# Altium integrated library NSC Amplifier.IntLib: 1615 symbols (part 28 of 44)
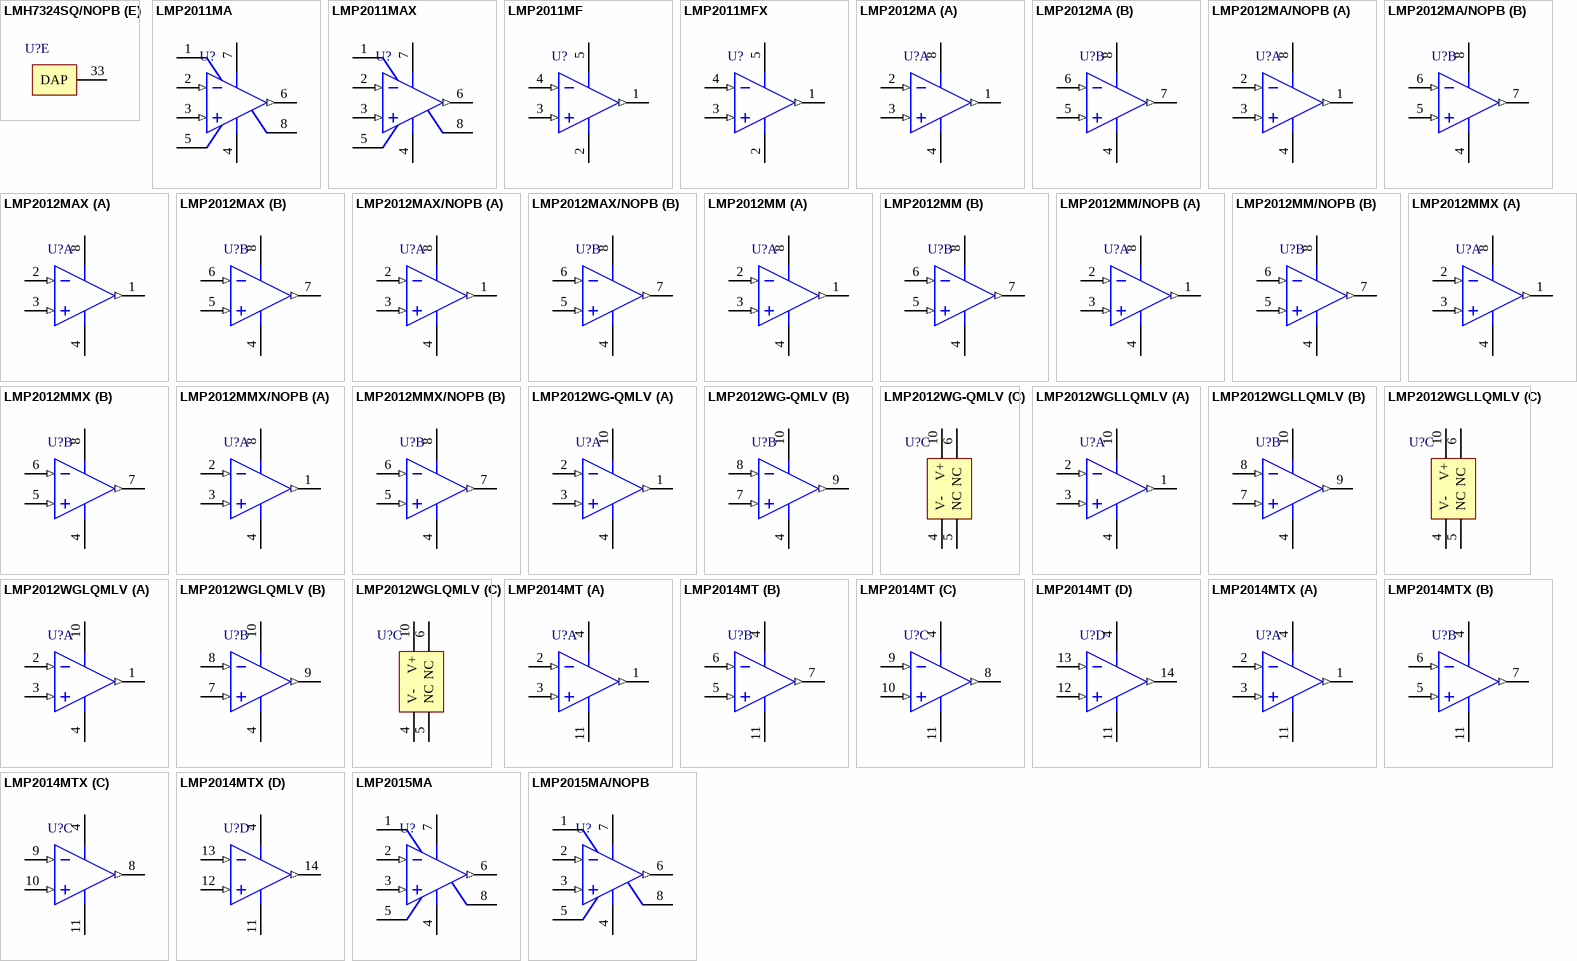
[diagram p109: symbols LMH7324SQ/NOPB to LMP2015MA/NOPB]

## LMP2012MAX
designator U?
Dual, High Precision, Rail-to-Rail Output Operational Amplifier, 8-pin Narrow SOIC; PartNumber: LMP2012MAX; Manufacturer: National Semiconductor; PackageTopMarking: NSZXTT*LMP20*12MA; PowerWise: N; CompType: Amplifiers; Published: 1-Mar-2010; DatasheetVersion: Jul-2008; PackageVersion: revM, May-2009; PackageReference: M08A; Publisher: Altium Limited; PackageDescription: SOIC Narrow, 4.9 x 3.9 x 1.45mm, 8 Lead, 1.27mm Pitch; RoHS: N; PinCount: 8; Code_JEDEC: MS-012-AA; Code_IPC: SOIC127P600-8; ComponentLink1Description: LMP2012 Datasheet; ComponentLink1URL: http://www.national.com/ds/LM/LMP2012.pdf; ComponentLink2Description: LMP2012 Web Page; ComponentLink2URL: http://www.national.com/pf/LM/LMP2012.html; ComponentLink3Description: M08A Package Page; ComponentLink3URL: http://www.national.com/packaging/folders/m08a.html
footprint M08A_N (SOIC, 8-Leads, Body 4.9x3.9mm, Pitch 1.27mm, IPC Medium Density)
footprint M08A_L (SOIC, 8-Leads, Body 4.9x3.9mm, Pitch 1.27mm, IPC High Density)
footprint M08A_M (SOIC, 8-Leads, Body 4.9x3.9mm, Pitch 1.27mm, IPC Low Density)
simulation model LMP2011 (SUBCKT)
pins on every part: 4 V- (power), 8 V+ (power)
part A pins: 1 OUT1 (out), 2 IN1- (in), 3 IN1+ (in)
part B pins: 5 IN2+ (in), 6 IN2- (in), 7 OUT2 (out)

## LMP2012MAX/NOPB
designator U?
Dual, High Precision, Rail-to-Rail Output Operational Amplifier, 8-pin Narrow SOIC, Pb-Free; PartNumber: LMP2012MAX/NOPB; Manufacturer: National Semiconductor; PackageTopMarking: NSZXTT*LMP20*12MA; PowerWise: N; CompType: Amplifiers; Published: 1-Mar-2010; DatasheetVersion: Jul-2008; PackageVersion: revM, May-2009; PackageReference: M08A; Publisher: Altium Limited; PackageDescription: SOIC Narrow, 4.9 x 3.9 x 1.45mm, 8 Lead, 1.27mm Pitch; Supplier 1: Digi-Key; Supplier Part Number 1: LMP2012MAX-ND; RoHS: Y; PinCount: 8; Code_JEDEC: MS-012-AA; Code_IPC: SOIC127P600-8; ComponentLink1Description: LMP2012 Datasheet; ComponentLink1URL: http://www.national.com/ds/LM/LMP2012.pdf; ComponentLink2Description: LMP2012 Web Page; ComponentLink2URL: http://www.national.com/pf/LM/LMP2012.html; ComponentLink3Description: M08A Package Page; ComponentLink3URL: http://www.national.com/packaging/folders/m08a.html
footprint M08A_N (SOIC, 8-Leads, Body 4.9x3.9mm, Pitch 1.27mm, IPC Medium Density)
footprint M08A_L (SOIC, 8-Leads, Body 4.9x3.9mm, Pitch 1.27mm, IPC High Density)
footprint M08A_M (SOIC, 8-Leads, Body 4.9x3.9mm, Pitch 1.27mm, IPC Low Density)
simulation model LMP2011 (SUBCKT)
pins on every part: 4 V- (power), 8 V+ (power)
part A pins: 1 OUT1 (out), 2 IN1- (in), 3 IN1+ (in)
part B pins: 5 IN2+ (in), 6 IN2- (in), 7 OUT2 (out)

## LMP2012MM
designator U?
Dual, High Precision, Rail-to-Rail Output Operational Amplifier, 8-pin Mini SOIC; PartNumber: LMP2012MM; Manufacturer: National Semiconductor; PackageTopMarking: ZXTT*AP1A; PowerWise: N; CompType: Amplifiers; Published: 4-Dec-2008; LatestRevisionDate: 13-Jan-2009; LatestRevisionNote: Sim Model Added.; DatasheetVersion: Jul-2008; PackageVersion: revF, Apr-2008; PackageReference: MUA08A; Publisher: Altium Limited; PackageDescription: MINI SOIC, .118 x .118 x .034in, 8 Lead, .0256in Pitch; Supplier 1: Farnell; Supplier Part Number 1: 1008038; RoHS: N; PinCount: 8; Code_JEDEC: MO-187-AA; ComponentLink1Description: LMP2012 Datasheet; ComponentLink1URL: http://www.national.com/ds/LM/LMP2012.pdf; ComponentLink2Description: LMP2012 Web Page; ComponentLink2URL: http://www.national.com/pf/LM/LMP2012.html; ComponentLink3Description: MUA08A Package Page; ComponentLink3URL: http://www.national.com/packaging/folders/mua08a.html
footprint MUA08A_N (TSOP, 8-Leads, Body 3x3mm, Pitch 0.65mm, IPC Medium Density)
footprint MUA08A_L (TSOP, 8-Leads, Body 3x3mm, Pitch 0.65mm, IPC High Density)
footprint MUA08A_M (TSOP, 8-Leads, Body 3x3mm, Pitch 0.65mm, IPC Low Density)
simulation model LMP2011 (SUBCKT)
pins on every part: 4 V- (power), 8 V+ (power)
part A pins: 1 OUTA (out), 2 INA- (in), 3 INA+ (in)
part B pins: 5 INB+ (in), 6 INB- (in), 7 OUTB (out)

## LMP2012MM/NOPB
designator U?
Dual, High Precision, Rail-to-Rail Output Operational Amplifier, 8-pin Mini SOIC, Pb-Free; PartNumber: LMP2012MM/NOPB; Manufacturer: National Semiconductor; PackageTopMarking: ZXTT*AP1A; PowerWise: N; CompType: Amplifiers; Published: 1-Mar-2010; DatasheetVersion: Jul-2008; PackageVersion: revF, Apr-2008; PackageReference: MUA08A; Publisher: Altium Limited; PackageDescription: MINI SOIC, .118 x .118 x .034in, 8 Lead, .0256in Pitch; Supplier 1: Digi-Key; Supplier Part Number 1: LMP2012MMTR-ND; Supplier 2: Digi-Key; Supplier Part Number 2: LMP2012MMCT-ND; Supplier 3: Digi-Key; Supplier Part Number 3: LMP2012MMDKR-ND; Supplier 4: Farnell; Supplier Part Number 4: 1559338; RoHS: Y; PinCount: 8; Code_JEDEC: MO-187-AA; ComponentLink1Description: LMP2012 Datasheet; ComponentLink1URL: http://www.national.com/ds/LM/LMP2012.pdf; ComponentLink2Description: LMP2012 Web Page; ComponentLink2URL: http://www.national.com/pf/LM/LMP2012.html; ComponentLink3Description: MUA08A Package Page; ComponentLink3URL: http://www.national.com/packaging/folders/mua08a.html
footprint MUA08A_N (TSOP, 8-Leads, Body 3x3mm, Pitch 0.65mm, IPC Medium Density)
footprint MUA08A_L (TSOP, 8-Leads, Body 3x3mm, Pitch 0.65mm, IPC High Density)
footprint MUA08A_M (TSOP, 8-Leads, Body 3x3mm, Pitch 0.65mm, IPC Low Density)
simulation model LMP2011 (SUBCKT)
pins on every part: 4 V- (power), 8 V+ (power)
part A pins: 1 OUTA (out), 2 INA- (in), 3 INA+ (in)
part B pins: 5 INB+ (in), 6 INB- (in), 7 OUTB (out)

## LMP2012MMX
designator U?
Dual, High Precision, Rail-to-Rail Output Operational Amplifier, 8-pin Mini SOIC; PartNumber: LMP2012MMX; Manufacturer: National Semiconductor; PackageTopMarking: ZXTT*AP1A; PowerWise: N; CompType: Amplifiers; Published: 1-Mar-2010; DatasheetVersion: Jul-2008; PackageVersion: revF, Apr-2008; PackageReference: MUA08A; Publisher: Altium Limited; PackageDescription: MINI SOIC, .118 x .118 x .034in, 8 Lead, .0256in Pitch; RoHS: N; PinCount: 8; Code_JEDEC: MO-187-AA; ComponentLink1Description: LMP2012 Datasheet; ComponentLink1URL: http://www.national.com/ds/LM/LMP2012.pdf; ComponentLink2Description: LMP2012 Web Page; ComponentLink2URL: http://www.national.com/pf/LM/LMP2012.html; ComponentLink3Description: MUA08A Package Page; ComponentLink3URL: http://www.national.com/packaging/folders/mua08a.html
footprint MUA08A_N (TSOP, 8-Leads, Body 3x3mm, Pitch 0.65mm, IPC Medium Density)
footprint MUA08A_L (TSOP, 8-Leads, Body 3x3mm, Pitch 0.65mm, IPC High Density)
footprint MUA08A_M (TSOP, 8-Leads, Body 3x3mm, Pitch 0.65mm, IPC Low Density)
simulation model LMP2011 (SUBCKT)
pins on every part: 4 V- (power), 8 V+ (power)
part A pins: 1 OUTA (out), 2 INA- (in), 3 INA+ (in)
part B pins: 5 INB+ (in), 6 INB- (in), 7 OUTB (out)

## LMP2012MMX/NOPB
designator U?
Dual, High Precision, Rail-to-Rail Output Operational Amplifier, 8-pin Mini SOIC, Pb-Free; PartNumber: LMP2012MMX/NOPB; Manufacturer: National Semiconductor; PackageTopMarking: ZXTT*AP1A; PowerWise: N; CompType: Amplifiers; Published: 1-Mar-2010; DatasheetVersion: Jul-2008; PackageVersion: revF, Apr-2008; PackageReference: MUA08A; Publisher: Altium Limited; PackageDescription: MINI SOIC, .118 x .118 x .034in, 8 Lead, .0256in Pitch; Supplier 1: Digi-Key; Supplier Part Number 1: LMP2012MMX-ND; RoHS: Y; PinCount: 8; Code_JEDEC: MO-187-AA; ComponentLink1Description: LMP2012 Datasheet; ComponentLink1URL: http://www.national.com/ds/LM/LMP2012.pdf; ComponentLink2Description: LMP2012 Web Page; ComponentLink2URL: http://www.national.com/pf/LM/LMP2012.html; ComponentLink3Description: MUA08A Package Page; ComponentLink3URL: http://www.national.com/packaging/folders/mua08a.html
footprint MUA08A_N (TSOP, 8-Leads, Body 3x3mm, Pitch 0.65mm, IPC Medium Density)
footprint MUA08A_L (TSOP, 8-Leads, Body 3x3mm, Pitch 0.65mm, IPC High Density)
footprint MUA08A_M (TSOP, 8-Leads, Body 3x3mm, Pitch 0.65mm, IPC Low Density)
simulation model LMP2011 (SUBCKT)
pins on every part: 4 V- (power), 8 V+ (power)
part A pins: 1 OUTA (out), 2 INA- (in), 3 INA+ (in)
part B pins: 5 INB+ (in), 6 INB- (in), 7 OUTB (out)

## LMP2012WG-QMLV
designator U?
Dual, High Precision, Rail-to-Rail Output Operational Amplifier, 10-pin CerPACK; PartNumber: LMP2012WG-QMLV; Manufacturer: National Semiconductor; PackageTopMarking: NSZSSXXYY*A LMP2012*WG-QV Q*5962-06206*01VZA; PowerWise: N; CompType: Amplifiers; High-Reliability: Y; Published: 4-Dec-2008; LatestRevisionDate: 13-Jan-2009; LatestRevisionNote: Sim Model Added.; DatasheetVersion: Jun-2010; PackageVersion: revF, Oct-2008; PackageReference: WG10A; Publisher: Altium Limited; PackageDescription: Cerpack, .270 x .241 x .070in, 10 Lead, .050in Pitch, Gull Wing; RoHS: N; PinCount: 10; ComponentLink1Description: LMP2012QML Datasheet; ComponentLink1URL: http://www.national.com/ds/LM/LMP2012QML.pdf; ComponentLink2Description: LMP2012 Web Page; ComponentLink2URL: http://www.national.com/pf/LM/LMP2012.html; ComponentLink3Description: WG10A Package Page; ComponentLink3URL: http://www.national.com/packaging/folders/wg10a.html
footprint WG10A_N (CERPACK, 10-Leads, Body 6.9x6.3mm, Pitch 1.27mm, IPC Medium Density)
footprint WG10A_L (CERPACK, 10-Leads, Body 6.9x6.3mm, Pitch 1.27mm, IPC High Density)
footprint WG10A_M (CERPACK, 10-Leads, Body 6.9x6.3mm, Pitch 1.27mm, IPC Low Density)
simulation model LMP2011 (SUBCKT)
pins on every part: 4 V- (power), 10 V+ (power)
part A pins: 1 OUTA (out), 2 INA- (in), 3 INA+ (in)
part B pins: 7 INB+ (in), 8 INB- (in), 9 OUTB (out)
part C pins: 5 NC, 6 NC

## LMP2012WGLLQMLV
designator U?
Dual, High Precision, Rail-to-Rail Output Operational Amplifier, 10-pin CERPACK; PartNumber: LMP2012WGLLQMLV; Manufacturer: National Semiconductor; PackageTopMarking: NSZSSXXYY*A LMP2012*WGLLQV Q*5962L06206*02VZA; PowerWise: N; CompType: Amplifiers; High-Reliability: Y; Published: 16-Nov-2010; DatasheetVersion: Jun-2010; PackageVersion: revF, Oct-2008; PackageReference: WG10A; Publisher: Altium Limited; PackageDescription: Cerpack, .270 x .241 x .070in, 10 Lead, .050in Pitch, Gull Wing; RoHS: N; PinCount: 10; ComponentLink1Description: LMP2012 Datasheet; ComponentLink1URL: http://www.national.com/ds/LM/LMP2012QML.pdf; ComponentLink2Description: LMP2012 Web Page; ComponentLink2URL: http://www.national.com/pf/LM/LMP2012.html; ComponentLink3Description: WG10A Package Page; ComponentLink3URL: http://www.national.com/packaging/folders/wg10a.html
footprint WG10A_N (CERPACK, 10-Leads, Body 6.9x6.3mm, Pitch 1.27mm, IPC Medium Density)
footprint WG10A_L (CERPACK, 10-Leads, Body 6.9x6.3mm, Pitch 1.27mm, IPC High Density)
footprint WG10A_M (CERPACK, 10-Leads, Body 6.9x6.3mm, Pitch 1.27mm, IPC Low Density)
pins on every part: 4 V- (power), 10 V+ (power)
part A pins: 1 OUTA (out), 2 INA- (in), 3 INA+ (in)
part B pins: 7 INB+ (in), 8 INB- (in), 9 OUTB (out)
part C pins: 5 NC, 6 NC

## LMP2012WGLQMLV
designator U?
Dual, High Precision, Rail-to-Rail Output Operational Amplifier, 10-pin CerPACK; PartNumber: LMP2012WGLQMLV; Manufacturer: National Semiconductor; PackageTopMarking: NSZSSXXYY*A LMP2012*WGLQV Q*5962L06206*01VZA; PowerWise: N; CompType: Amplifiers; High-Reliability: Y; Published: 4-Dec-2008; LatestRevisionDate: 13-Jan-2009; LatestRevisionNote: Sim Model Added.; DatasheetVersion: Jun-2010; PackageVersion: revF, Oct-2008; PackageReference: WG10A; Publisher: Altium Limited; PackageDescription: Cerpack, .270 x .241 x .070in, 10 Lead, .050in Pitch, Gull Wing; RoHS: N; PinCount: 10; ComponentLink1Description: LMP2012 Datasheet; ComponentLink1URL: http://www.national.com/ds/LM/LMP2012QML.pdf; ComponentLink2Description: LMP2012 Web Page; ComponentLink2URL: http://www.national.com/pf/LM/LMP2012.html; ComponentLink3Description: WG10A Package Page; ComponentLink3URL: http://www.national.com/packaging/folders/wg10a.html
footprint WG10A_N (CERPACK, 10-Leads, Body 6.9x6.3mm, Pitch 1.27mm, IPC Medium Density)
footprint WG10A_L (CERPACK, 10-Leads, Body 6.9x6.3mm, Pitch 1.27mm, IPC High Density)
footprint WG10A_M (CERPACK, 10-Leads, Body 6.9x6.3mm, Pitch 1.27mm, IPC Low Density)
simulation model LMP2011 (SUBCKT)
pins on every part: 4 V- (power), 10 V+ (power)
part A pins: 1 OUTA (out), 2 INA- (in), 3 INA+ (in)
part B pins: 7 INB+ (in), 8 INB- (in), 9 OUTB (out)
part C pins: 5 NC, 6 NC

## LMP2014MT
designator U?
Quad, High Precision, Rail-to-Rail Output Operational Amplifier, 14-pin TSSOP; PartNumber: LMP2014MT; Manufacturer: National Semiconductor; PackageTopMarking: NSUZXYTT*LMP20*14MT; PowerWise: N; CompType: Amplifiers; Published: 4-Dec-2008; LatestRevisionDate: 13-Jan-2009; LatestRevisionNote: Sim Model Added.; DatasheetVersion: Jul-2005; PackageVersion: revD, Jun-2003; PackageReference: MTC14; Publisher: Altium Limited; PackageDescription: Molded TSSOP, JEDEC, 5 x 4.4 x 0.9mm Body, 14 Lead, 0.65mm Pitch; Supplier 1: Farnell; Supplier Part Number 1: 1008281; RoHS: N; PinCount: 14; Code_JEDEC: MO-153-AB-1; ComponentLink1Description: LMP2014MT Datasheet; ComponentLink1URL: http://www.national.com/ds/LM/LMP2014MT.pdf; ComponentLink2Description: LMP2014MT Web Page; ComponentLink2URL: http://www.national.com/pf/LM/LMP2014MT.html; ComponentLink3Description: MTC14 Package Page; ComponentLink3URL: http://www.national.com/packaging/folders/mtc14.html
footprint MTC14_N (TSOP, 14-Leads, Body 5x4.4mm, Pitch 0.65mm, IPC Medium Density)
footprint MTC14_L (TSOP, 14-Leads, Body 5x4.4mm, Pitch 0.65mm, IPC High Density)
footprint MTC14_M (TSOP, 14-Leads, Body 5x4.4mm, Pitch 0.65mm, IPC Low Density)
simulation model LMP2011 (SUBCKT)
pins on every part: 4 V+ (power), 11 V- (power)
part A pins: 1 OUTA (out), 2 INA- (in), 3 INA+ (in)
part B pins: 5 INB+ (in), 6 INB- (in), 7 OUTB (out)
part C pins: 8 OUTC (out), 9 INC- (in), 10 INC+ (in)
part D pins: 12 IND+ (in), 13 IND- (in), 14 OUTD (out)

## LMP2014MTX
designator U?
Quad, High Precision, Rail-to-Rail Output Operational Amplifier, 14-pin TSSOP; PartNumber: LMP2014MTX; Manufacturer: National Semiconductor; PackageTopMarking: NSUZXYTT*LMP20*14MT; PowerWise: N; CompType: Amplifiers; Published: 1-Mar-2010; DatasheetVersion: Jul-2005; PackageVersion: revD, Jun-2003; PackageReference: MTC14; Publisher: Altium Limited; PackageDescription: Molded TSSOP, JEDEC, 5 x 4.4 x 0.9mm Body, 14 Lead, 0.65mm Pitch; RoHS: N; PinCount: 14; Code_JEDEC: MO-153-AB-1; ComponentLink1Description: LMP2014MT Datasheet; ComponentLink1URL: http://www.national.com/ds/LM/LMP2014MT.pdf; ComponentLink2Description: LMP2014MT Web Page; ComponentLink2URL: http://www.national.com/pf/LM/LMP2014MT.html; ComponentLink3Description: MTC14 Package Page; ComponentLink3URL: http://www.national.com/packaging/folders/mtc14.html
footprint MTC14_N (TSOP, 14-Leads, Body 5x4.4mm, Pitch 0.65mm, IPC Medium Density)
footprint MTC14_L (TSOP, 14-Leads, Body 5x4.4mm, Pitch 0.65mm, IPC High Density)
footprint MTC14_M (TSOP, 14-Leads, Body 5x4.4mm, Pitch 0.65mm, IPC Low Density)
simulation model LMP2011 (SUBCKT)
pins on every part: 4 V+ (power), 11 V- (power)
part A pins: 1 OUTA (out), 2 INA- (in), 3 INA+ (in)
part B pins: 5 INB+ (in), 6 INB- (in), 7 OUTB (out)
part C pins: 8 OUTC (out), 9 INC- (in), 10 INC+ (in)
part D pins: 12 IND+ (in), 13 IND- (in), 14 OUTD (out)

## LMP2015MA
designator U?
Single, High Precision, Rail-to-Rail Output Operational Amplifier, 8-pin Narrow SOIC; PartNumber: LMP2015MA; Manufacturer: National Semiconductor; PackageTopMarking: NSZXTT*LMP20*15MA; PowerWise: N; CompType: Amplifiers; Published: 4-Dec-2008; LatestRevisionDate: 13-Jan-2009; LatestRevisionNote: Sim Model Added.; DatasheetVersion: Jan-2010; PackageVersion: revM, May-2009; PackageReference: M08A; Publisher: Altium Limited; PackageDescription: SOIC Narrow, 4.9 x 3.9 x 1.45mm, 8 Lead, 1.27mm Pitch; Supplier 1: Farnell; Supplier Part Number 1: 1542530; RoHS: Y; PinCount: 8; Code_JEDEC: MS-012-AA; Code_IPC: SOIC127P600-8; ComponentLink1Description: LMP2015 Datasheet; ComponentLink1URL: http://www.national.com/ds/LM/LMP2015.pdf; ComponentLink2Description: LMP2015 Web Page; ComponentLink2URL: http://www.national.com/pf/LM/LMP2015.html; ComponentLink3Description: M08A Package Page; ComponentLink3URL: http://www.national.com/packaging/folders/m08a.html
footprint M08A_N (SOIC, 8-Leads, Body 4.9x3.9mm, Pitch 1.27mm, IPC Medium Density)
footprint M08A_L (SOIC, 8-Leads, Body 4.9x3.9mm, Pitch 1.27mm, IPC High Density)
footprint M08A_M (SOIC, 8-Leads, Body 4.9x3.9mm, Pitch 1.27mm, IPC Low Density)
simulation model LMP2011 (SUBCKT)
pins: 1 NC, 2 IN- (in), 3 IN+ (in), 4 V- (power), 5 NC, 6 OUT (out), 7 V+ (power), 8 NC

## LMP2015MA/NOPB
designator U?
Single, High Precision, Rail-to-Rail Output Operational Amplifier, 8-pin Narrow SOIC, Pb-Free; PartNumber: LMP2015MA/NOPB; Manufacturer: National Semiconductor; PackageTopMarking: NSZXTT*LMP20*15MA; PowerWise: N; CompType: Amplifiers; Published: 1-Mar-2010; DatasheetVersion: Jan-2010; PackageVersion: revM, May-2009; PackageReference: M08A; Publisher: Altium Limited; PackageDescription: SOIC Narrow, 4.9 x 3.9 x 1.45mm, 8 Lead, 1.27mm Pitch; Supplier 1: Digi-Key; Supplier Part Number 1: LMP2015MA-ND; RoHS: Y; PinCount: 8; Code_JEDEC: MS-012-AA; Code_IPC: SOIC127P600-8; ComponentLink1Description: LMP2015 Datasheet; ComponentLink1URL: http://www.national.com/ds/LM/LMP2015.pdf; ComponentLink2Description: LMP2015 Web Page; ComponentLink2URL: http://www.national.com/pf/LM/LMP2015.html; ComponentLink3Description: M08A Package Page; ComponentLink3URL: http://www.national.com/packaging/folders/m08a.html
footprint M08A_N (SOIC, 8-Leads, Body 4.9x3.9mm, Pitch 1.27mm, IPC Medium Density)
footprint M08A_L (SOIC, 8-Leads, Body 4.9x3.9mm, Pitch 1.27mm, IPC High Density)
footprint M08A_M (SOIC, 8-Leads, Body 4.9x3.9mm, Pitch 1.27mm, IPC Low Density)
simulation model LMP2011 (SUBCKT)
pins: 1 NC, 2 IN- (in), 3 IN+ (in), 4 V- (power), 5 NC, 6 OUT (out), 7 V+ (power), 8 NC

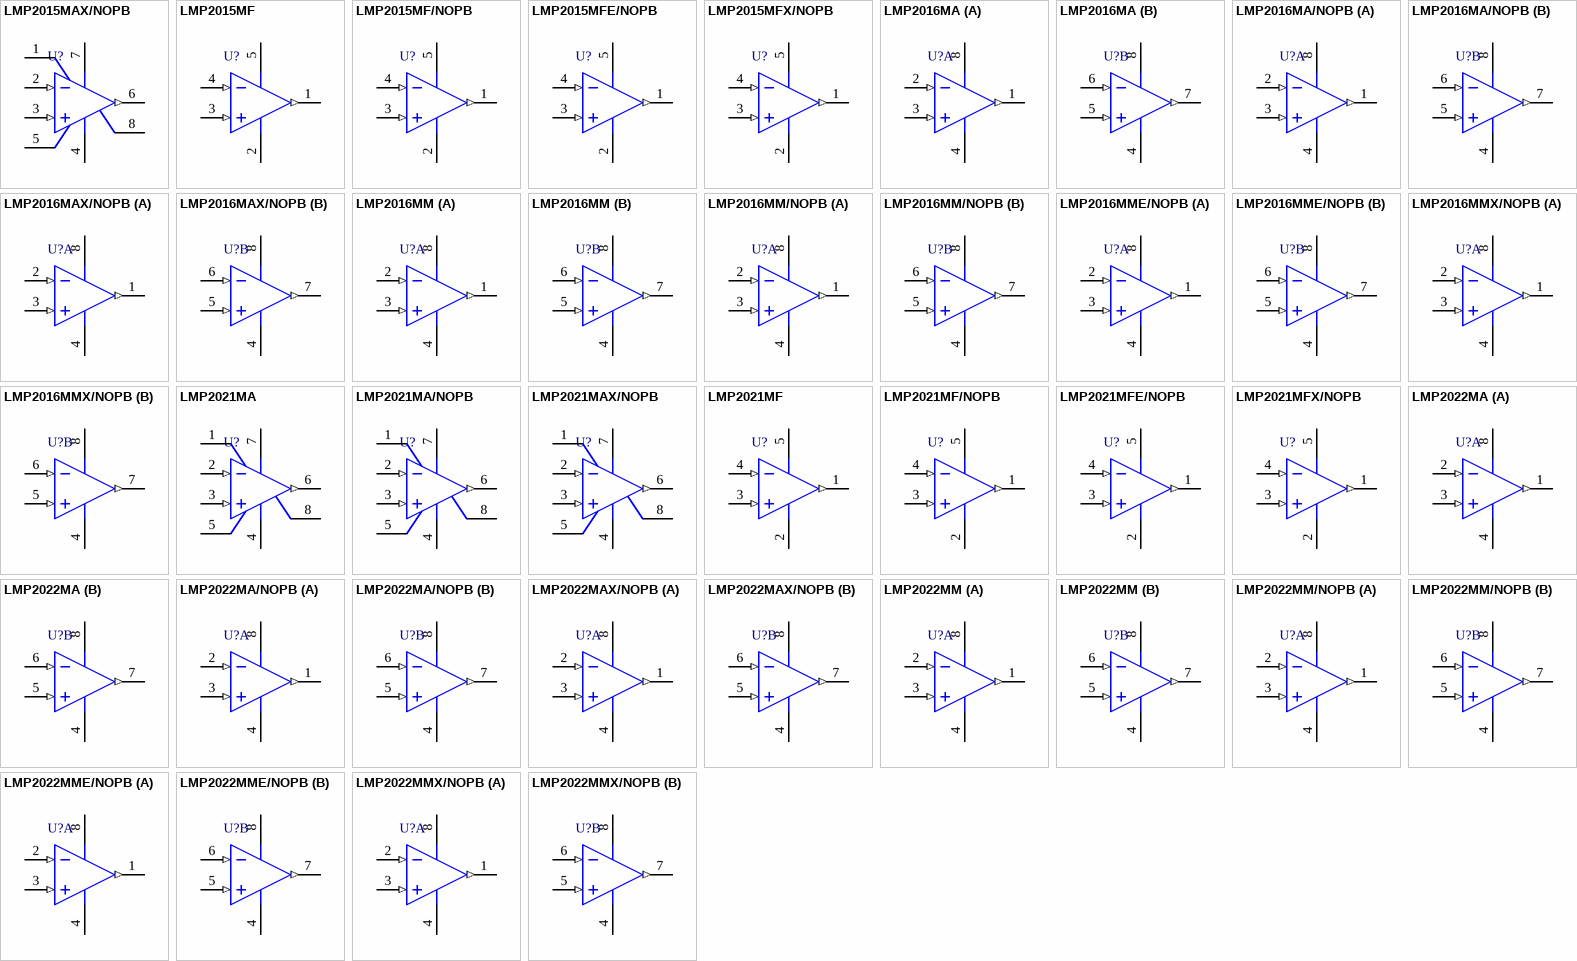
[diagram p55: symbols LMP2015MAX/NOPB to LMP2022MMX/NOPB]

## LMP2015MAX/NOPB
designator U?
Single, High Precision, Rail-to-Rail Output Operational Amplifier, 8-pin Narrow SOIC, Pb-Free; PartNumber: LMP2015MAX/NOPB; Manufacturer: National Semiconductor; PackageTopMarking: NSZXTT*LMP20*15MA; PowerWise: N; CompType: Amplifiers; Published: 1-Mar-2010; DatasheetVersion: Jan-2010; PackageVersion: revM, May-2009; PackageReference: M08A; Publisher: Altium Limited; PackageDescription: SOIC Narrow, 4.9 x 3.9 x 1.45mm, 8 Lead, 1.27mm Pitch; Supplier 1: Digi-Key; Supplier Part Number 1: LMP2015MAX-ND; RoHS: Y; PinCount: 8; Code_JEDEC: MS-012-AA; Code_IPC: SOIC127P600-8; ComponentLink1Description: LMP2015 Datasheet; ComponentLink1URL: http://www.national.com/ds/LM/LMP2015.pdf; ComponentLink2Description: LMP2015 Web Page; ComponentLink2URL: http://www.national.com/pf/LM/LMP2015.html; ComponentLink3Description: M08A Package Page; ComponentLink3URL: http://www.national.com/packaging/folders/m08a.html
footprint M08A_N (SOIC, 8-Leads, Body 4.9x3.9mm, Pitch 1.27mm, IPC Medium Density)
footprint M08A_L (SOIC, 8-Leads, Body 4.9x3.9mm, Pitch 1.27mm, IPC High Density)
footprint M08A_M (SOIC, 8-Leads, Body 4.9x3.9mm, Pitch 1.27mm, IPC Low Density)
simulation model LMP2011 (SUBCKT)
pins: 1 NC, 2 IN- (in), 3 IN+ (in), 4 V- (power), 5 NC, 6 OUT (out), 7 V+ (power), 8 NC

## LMP2015MF
designator U?
Single, High Precision, Rail-to-Rail Output Operational Amplifier, 5-pin SOT-23; PartNumber: LMP2015MF; Manufacturer: National Semiconductor; PackageTopMarking: AD5A*XTT; PowerWise: N; CompType: Amplifiers; Published: 4-Dec-2008; LatestRevisionDate: 13-Jan-2009; LatestRevisionNote: Sim Model Added.; DatasheetVersion: Jan-2010; PackageVersion: revD, Aug-2008; PackageReference: MF05A; Publisher: Altium Limited; PackageDescription: Molded SOT-23, .115 x .063 x .040 in Body, 5 Lead, .0375 in Pitch; Supplier 1: Farnell; Supplier Part Number 1: 1542531; RoHS: Y; PinCount: 5; ComponentLink1Description: LMP2015 Datasheet; ComponentLink1URL: http://www.national.com/ds/LM/LMP2015.pdf; ComponentLink2Description: LMP2015 Web Page; ComponentLink2URL: http://www.national.com/pf/LM/LMP2015.html; ComponentLink3Description: MF05A Package Page; ComponentLink3URL: http://www.national.com/packaging/folders/mf05a.html
footprint MF05A_N (SOT23, 5-Leads, Body 2.9x1.6mm, Pitch 0.95mm, Lead Span 2.8mm, IPC Medium Density)
footprint MF05A_L (SOT23, 5-Leads, Body 2.9x1.6mm, Pitch 0.95mm, Lead Span 2.8mm, IPC High Density)
footprint MF05A_M (SOT23, 5-Leads, Body 2.9x1.6mm, Pitch 0.95mm, Lead Span 2.8mm, IPC Low Density)
simulation model LMP2011 (SUBCKT)
pins: 1 OUT (out), 2 V- (power), 3 IN+ (in), 4 IN- (in), 5 V+ (power)

## LMP2015MF/NOPB
designator U?
Single, High Precision, Rail-to-Rail Output Operational Amplifier, 5-pin SOT-23, Pb-Free; PartNumber: LMP2015MF/NOPB; Manufacturer: National Semiconductor; PackageTopMarking: AD5A*XTT; PowerWise: N; CompType: Amplifiers; Published: 1-Mar-2010; DatasheetVersion: Jan-2010; PackageVersion: revD, Aug-2008; PackageReference: MF05A; Publisher: Altium Limited; PackageDescription: Molded SOT-23, .115 x .063 x .040 in Body, 5 Lead, .0375 in Pitch; Supplier 1: Digi-Key; Supplier Part Number 1: LMP2015MFTR-ND; Supplier 2: Digi-Key; Supplier Part Number 2: LMP2015MFCT-ND; Supplier 3: Digi-Key; Supplier Part Number 3: LMP2015MFDKR-ND; RoHS: Y; PinCount: 5; ComponentLink1Description: LMP2015 Datasheet; ComponentLink1URL: http://www.national.com/ds/LM/LMP2015.pdf; ComponentLink2Description: LMP2015 Web Page; ComponentLink2URL: http://www.national.com/pf/LM/LMP2015.html; ComponentLink3Description: MF05A Package Page; ComponentLink3URL: http://www.national.com/packaging/folders/mf05a.html
footprint MF05A_N (SOT23, 5-Leads, Body 2.9x1.6mm, Pitch 0.95mm, Lead Span 2.8mm, IPC Medium Density)
footprint MF05A_L (SOT23, 5-Leads, Body 2.9x1.6mm, Pitch 0.95mm, Lead Span 2.8mm, IPC High Density)
footprint MF05A_M (SOT23, 5-Leads, Body 2.9x1.6mm, Pitch 0.95mm, Lead Span 2.8mm, IPC Low Density)
simulation model LMP2011 (SUBCKT)
pins: 1 OUT (out), 2 V- (power), 3 IN+ (in), 4 IN- (in), 5 V+ (power)

## LMP2015MFE/NOPB
designator U?
Single, High Precision, Rail-to-Rail Output Operational Amplifier, 5-pin SOT-23, Pb-Free; PartNumber: LMP2015MFE/NOPB; Manufacturer: National Semiconductor; PackageTopMarking: AD5A*XTT; PowerWise: N; CompType: Amplifiers; Published: 1-Mar-2010; DatasheetVersion: Jan-2010; PackageVersion: revD, Aug-2008; PackageReference: MF05A; Publisher: Altium Limited; PackageDescription: Molded SOT-23, .115 x .063 x .040 in Body, 5 Lead, .0375 in Pitch; Supplier 1: Digi-Key; Supplier Part Number 1: LMP2015MFE-ND; RoHS: Y; PinCount: 5; ComponentLink1Description: LMP2015 Datasheet; ComponentLink1URL: http://www.national.com/ds/LM/LMP2015.pdf; ComponentLink2Description: LMP2015 Web Page; ComponentLink2URL: http://www.national.com/pf/LM/LMP2015.html; ComponentLink3Description: MF05A Package Page; ComponentLink3URL: http://www.national.com/packaging/folders/mf05a.html
footprint MF05A_N (SOT23, 5-Leads, Body 2.9x1.6mm, Pitch 0.95mm, Lead Span 2.8mm, IPC Medium Density)
footprint MF05A_L (SOT23, 5-Leads, Body 2.9x1.6mm, Pitch 0.95mm, Lead Span 2.8mm, IPC High Density)
footprint MF05A_M (SOT23, 5-Leads, Body 2.9x1.6mm, Pitch 0.95mm, Lead Span 2.8mm, IPC Low Density)
simulation model LMP2011 (SUBCKT)
pins: 1 OUT (out), 2 V- (power), 3 IN+ (in), 4 IN- (in), 5 V+ (power)

## LMP2015MFX/NOPB
designator U?
Single, High Precision, Rail-to-Rail Output Operational Amplifier, 5-pin SOT-23, Pb-Free; PartNumber: LMP2015MFX/NOPB; Manufacturer: National Semiconductor; PackageTopMarking: AD5A*XTT; PowerWise: N; CompType: Amplifiers; Published: 1-Mar-2010; DatasheetVersion: Jan-2010; PackageVersion: revD, Aug-2008; PackageReference: MF05A; Publisher: Altium Limited; PackageDescription: Molded SOT-23, .115 x .063 x .040 in Body, 5 Lead, .0375 in Pitch; Supplier 1: Digi-Key; Supplier Part Number 1: LMP2015MFX-ND; RoHS: Y; PinCount: 5; ComponentLink1Description: LMP2015 Datasheet; ComponentLink1URL: http://www.national.com/ds/LM/LMP2015.pdf; ComponentLink2Description: LMP2015 Web Page; ComponentLink2URL: http://www.national.com/pf/LM/LMP2015.html; ComponentLink3Description: MF05A Package Page; ComponentLink3URL: http://www.national.com/packaging/folders/mf05a.html
footprint MF05A_N (SOT23, 5-Leads, Body 2.9x1.6mm, Pitch 0.95mm, Lead Span 2.8mm, IPC Medium Density)
footprint MF05A_L (SOT23, 5-Leads, Body 2.9x1.6mm, Pitch 0.95mm, Lead Span 2.8mm, IPC High Density)
footprint MF05A_M (SOT23, 5-Leads, Body 2.9x1.6mm, Pitch 0.95mm, Lead Span 2.8mm, IPC Low Density)
simulation model LMP2011 (SUBCKT)
pins: 1 OUT (out), 2 V- (power), 3 IN+ (in), 4 IN- (in), 5 V+ (power)

## LMP2016MA
designator U?
High Precision, Rail-to-Rail Output Operational Amplifier, 8-pin Narrow SOIC; PartNumber: LMP2016MA; Manufacturer: National Semiconductor; PackageTopMarking: NSZXTT*LMP20*16MA; PowerWise: N; CompType: Amplifiers; Published: 4-Dec-2008; LatestRevisionDate: 30-Oct-2009; LatestRevisionNote: Single Op Amp replaced with Dual Op Amp.; DatasheetVersion: Jan-2010; PackageVersion: revM, May-2009; PackageReference: M08A; Publisher: Altium Limited; PackageDescription: SOIC Narrow, 4.9 x 3.9 x 1.45mm, 8 Lead, 1.27mm Pitch; RoHS: Y; PinCount: 8; Code_JEDEC: MS-012-AA; Code_IPC: SOIC127P600-8; ComponentLink1Description: LMP2016 Datasheet; ComponentLink1URL: http://www.national.com/ds/LM/LMP2016.pdf; ComponentLink2Description: LMP2016 Web Page; ComponentLink2URL: http://www.national.com/pf/LM/LMP2016.html; ComponentLink3Description: M08A Package Page; ComponentLink3URL: http://www.national.com/packaging/folders/m08a.html
footprint M08A_N (SOIC, 8-Leads, Body 4.9x3.9mm, Pitch 1.27mm, IPC Medium Density)
footprint M08A_L (SOIC, 8-Leads, Body 4.9x3.9mm, Pitch 1.27mm, IPC High Density)
footprint M08A_M (SOIC, 8-Leads, Body 4.9x3.9mm, Pitch 1.27mm, IPC Low Density)
simulation model LMP2011 (SUBCKT)
pins on every part: 4 V- (power), 8 V+ (power)
part A pins: 1 OUT1 (out), 2 IN1- (in), 3 IN1+ (in)
part B pins: 5 IN2+ (in), 6 IN2- (in), 7 OUT2 (out)

## LMP2016MA/NOPB
designator U?
High Precision, Rail-to-Rail Output Operational Amplifier, 8-pin Narrow SOIC, Pb-Free; PartNumber: LMP2016MA/NOPB; Manufacturer: National Semiconductor; PackageTopMarking: NSZXTT*LMP20*16MA; PowerWise: N; CompType: Amplifiers; Published: 1-Mar-2010; DatasheetVersion: Jan-2010; PackageVersion: revM, May-2009; PackageReference: M08A; Publisher: Altium Limited; PackageDescription: SOIC Narrow, 4.9 x 3.9 x 1.45mm, 8 Lead, 1.27mm Pitch; Supplier 1: Digi-Key; Supplier Part Number 1: LMP2016MA-ND; RoHS: Y; PinCount: 8; Code_JEDEC: MS-012-AA; Code_IPC: SOIC127P600-8; ComponentLink1Description: LMP2016 Datasheet; ComponentLink1URL: http://www.national.com/ds/LM/LMP2016.pdf; ComponentLink2Description: LMP2016 Web Page; ComponentLink2URL: http://www.national.com/pf/LM/LMP2016.html; ComponentLink3Description: M08A Package Page; ComponentLink3URL: http://www.national.com/packaging/folders/m08a.html
footprint M08A_N (SOIC, 8-Leads, Body 4.9x3.9mm, Pitch 1.27mm, IPC Medium Density)
footprint M08A_L (SOIC, 8-Leads, Body 4.9x3.9mm, Pitch 1.27mm, IPC High Density)
footprint M08A_M (SOIC, 8-Leads, Body 4.9x3.9mm, Pitch 1.27mm, IPC Low Density)
simulation model LMP2011 (SUBCKT)
pins on every part: 4 V- (power), 8 V+ (power)
part A pins: 1 OUT1 (out), 2 IN1- (in), 3 IN1+ (in)
part B pins: 5 IN2+ (in), 6 IN2- (in), 7 OUT2 (out)

## LMP2016MAX/NOPB
designator U?
High Precision, Rail-to-Rail Output Operational Amplifier, 8-pin Narrow SOIC, Pb-Free; PartNumber: LMP2016MAX/NOPB; Manufacturer: National Semiconductor; PackageTopMarking: NSZXTT*LMP20*16MA; PowerWise: N; CompType: Amplifiers; Published: 1-Mar-2010; DatasheetVersion: Jan-2010; PackageVersion: revM, May-2009; PackageReference: M08A; Publisher: Altium Limited; PackageDescription: SOIC Narrow, 4.9 x 3.9 x 1.45mm, 8 Lead, 1.27mm Pitch; Supplier 1: Digi-Key; Supplier Part Number 1: LMP2016MAX-ND; RoHS: Y; PinCount: 8; Code_JEDEC: MS-012-AA; Code_IPC: SOIC127P600-8; ComponentLink1Description: LMP2016 Datasheet; ComponentLink1URL: http://www.national.com/ds/LM/LMP2016.pdf; ComponentLink2Description: LMP2016 Web Page; ComponentLink2URL: http://www.national.com/pf/LM/LMP2016.html; ComponentLink3Description: M08A Package Page; ComponentLink3URL: http://www.national.com/packaging/folders/m08a.html
footprint M08A_N (SOIC, 8-Leads, Body 4.9x3.9mm, Pitch 1.27mm, IPC Medium Density)
footprint M08A_L (SOIC, 8-Leads, Body 4.9x3.9mm, Pitch 1.27mm, IPC High Density)
footprint M08A_M (SOIC, 8-Leads, Body 4.9x3.9mm, Pitch 1.27mm, IPC Low Density)
simulation model LMP2011 (SUBCKT)
pins on every part: 4 V- (power), 8 V+ (power)
part A pins: 1 OUT1 (out), 2 IN1- (in), 3 IN1+ (in)
part B pins: 5 IN2+ (in), 6 IN2- (in), 7 OUT2 (out)

## LMP2016MM
designator U?
Dual, High Precision, Rail-to-Rail Output Operational Amplifier, 8-pin Mini SOIC; PartNumber: LMP2016MM; Manufacturer: National Semiconductor; PackageTopMarking: ZXTT*AE5A; PowerWise: N; CompType: Amplifiers; Published: 4-Dec-2008; LatestRevisionDate: 13-Jan-2009; LatestRevisionNote: Sim Model Added.; DatasheetVersion: Jan-2010; PackageVersion: revF, Apr-2008; PackageReference: MUA08A; Publisher: Altium Limited; PackageDescription: MINI SOIC, .118 x .118 x .034in, 8 Lead, .0256in Pitch; RoHS: Y; PinCount: 8; Code_JEDEC: MO-187-AA; ComponentLink1Description: LMP2016 Datasheet; ComponentLink1URL: http://www.national.com/ds/LM/LMP2016.pdf; ComponentLink2Description: LMP2016 Web Page; ComponentLink2URL: http://www.national.com/pf/LM/LMP2016.html; ComponentLink3Description: MUA08A Package Page; ComponentLink3URL: http://www.national.com/packaging/folders/mua08a.html
footprint MUA08A_N (TSOP, 8-Leads, Body 3x3mm, Pitch 0.65mm, IPC Medium Density)
footprint MUA08A_L (TSOP, 8-Leads, Body 3x3mm, Pitch 0.65mm, IPC High Density)
footprint MUA08A_M (TSOP, 8-Leads, Body 3x3mm, Pitch 0.65mm, IPC Low Density)
simulation model LMP2011 (SUBCKT)
pins on every part: 4 V- (power), 8 V+ (power)
part A pins: 1 OUTA (out), 2 INA- (in), 3 INA+ (in)
part B pins: 5 INB+ (in), 6 INB- (in), 7 OUTB (out)

## LMP2016MM/NOPB
designator U?
Dual, High Precision, Rail-to-Rail Output Operational Amplifier, 8-pin Mini SOIC, Pb-Free; PartNumber: LMP2016MM/NOPB; Manufacturer: National Semiconductor; PackageTopMarking: ZXTT*AE5A; PowerWise: N; CompType: Amplifiers; Published: 1-Mar-2010; DatasheetVersion: Jan-2010; PackageVersion: revF, Apr-2008; PackageReference: MUA08A; Publisher: Altium Limited; PackageDescription: MINI SOIC, .118 x .118 x .034in, 8 Lead, .0256in Pitch; Supplier 1: Digi-Key; Supplier Part Number 1: LMP2016MMTR-ND; Supplier 2: Digi-Key; Supplier Part Number 2: LMP2016MMCT-ND; Supplier 3: Digi-Key; Supplier Part Number 3: LMP2016MMDKR-ND; RoHS: Y; PinCount: 8; Code_JEDEC: MO-187-AA; ComponentLink1Description: LMP2016 Datasheet; ComponentLink1URL: http://www.national.com/ds/LM/LMP2016.pdf; ComponentLink2Description: LMP2016 Web Page; ComponentLink2URL: http://www.national.com/pf/LM/LMP2016.html; ComponentLink3Description: MUA08A Package Page; ComponentLink3URL: http://www.national.com/packaging/folders/mua08a.html
footprint MUA08A_N (TSOP, 8-Leads, Body 3x3mm, Pitch 0.65mm, IPC Medium Density)
footprint MUA08A_L (TSOP, 8-Leads, Body 3x3mm, Pitch 0.65mm, IPC High Density)
footprint MUA08A_M (TSOP, 8-Leads, Body 3x3mm, Pitch 0.65mm, IPC Low Density)
simulation model LMP2011 (SUBCKT)
pins on every part: 4 V- (power), 8 V+ (power)
part A pins: 1 OUTA (out), 2 INA- (in), 3 INA+ (in)
part B pins: 5 INB+ (in), 6 INB- (in), 7 OUTB (out)

## LMP2016MME/NOPB
designator U?
Dual, High Precision, Rail-to-Rail Output Operational Amplifier, 8-pin Mini SOIC, Pb-Free; PartNumber: LMP2016MME/NOPB; Manufacturer: National Semiconductor; PackageTopMarking: ZXTT*AE5A; PowerWise: N; CompType: Amplifiers; Published: 1-Mar-2010; DatasheetVersion: Jan-2010; PackageVersion: revF, Apr-2008; PackageReference: MUA08A; Publisher: Altium Limited; PackageDescription: MINI SOIC, .118 x .118 x .034in, 8 Lead, .0256in Pitch; Supplier 1: Digi-Key; Supplier Part Number 1: LMP2016MME-ND; RoHS: Y; PinCount: 8; Code_JEDEC: MO-187-AA; ComponentLink1Description: LMP2016 Datasheet; ComponentLink1URL: http://www.national.com/ds/LM/LMP2016.pdf; ComponentLink2Description: LMP2016 Web Page; ComponentLink2URL: http://www.national.com/pf/LM/LMP2016.html; ComponentLink3Description: MUA08A Package Page; ComponentLink3URL: http://www.national.com/packaging/folders/mua08a.html
footprint MUA08A_N (TSOP, 8-Leads, Body 3x3mm, Pitch 0.65mm, IPC Medium Density)
footprint MUA08A_L (TSOP, 8-Leads, Body 3x3mm, Pitch 0.65mm, IPC High Density)
footprint MUA08A_M (TSOP, 8-Leads, Body 3x3mm, Pitch 0.65mm, IPC Low Density)
simulation model LMP2011 (SUBCKT)
pins on every part: 4 V- (power), 8 V+ (power)
part A pins: 1 OUTA (out), 2 INA- (in), 3 INA+ (in)
part B pins: 5 INB+ (in), 6 INB- (in), 7 OUTB (out)

## LMP2016MMX/NOPB
designator U?
Dual, High Precision, Rail-to-Rail Output Operational Amplifier, 8-pin Mini SOIC, Pb-Free; PartNumber: LMP2016MMX/NOPB; Manufacturer: National Semiconductor; PackageTopMarking: ZXTT*AE5A; PowerWise: N; CompType: Amplifiers; Published: 1-Mar-2010; DatasheetVersion: Jan-2010; PackageVersion: revF, Apr-2008; PackageReference: MUA08A; Publisher: Altium Limited; PackageDescription: MINI SOIC, .118 x .118 x .034in, 8 Lead, .0256in Pitch; Supplier 1: Digi-Key; Supplier Part Number 1: LMP2016MMX-ND; RoHS: Y; PinCount: 8; Code_JEDEC: MO-187-AA; ComponentLink1Description: LMP2016 Datasheet; ComponentLink1URL: http://www.national.com/ds/LM/LMP2016.pdf; ComponentLink2Description: LMP2016 Web Page; ComponentLink2URL: http://www.national.com/pf/LM/LMP2016.html; ComponentLink3Description: MUA08A Package Page; ComponentLink3URL: http://www.national.com/packaging/folders/mua08a.html
footprint MUA08A_N (TSOP, 8-Leads, Body 3x3mm, Pitch 0.65mm, IPC Medium Density)
footprint MUA08A_L (TSOP, 8-Leads, Body 3x3mm, Pitch 0.65mm, IPC High Density)
footprint MUA08A_M (TSOP, 8-Leads, Body 3x3mm, Pitch 0.65mm, IPC Low Density)
simulation model LMP2011 (SUBCKT)
pins on every part: 4 V- (power), 8 V+ (power)
part A pins: 1 OUTA (out), 2 INA- (in), 3 INA+ (in)
part B pins: 5 INB+ (in), 6 INB- (in), 7 OUTB (out)

## LMP2021MA
designator U?
Zero Drift, Low Noise, EMI Hardened Amplifier, 8-pin Narrow SOIC; PartNumber: LMP2021MA; Manufacturer: National Semiconductor; PackageTopMarking: NSZXTT*LMP20*21MA; PowerWise: N; CompType: Amplifiers; Published: 4-Dec-2008; LatestRevisionDate: 13-Jan-2009; LatestRevisionNote: Sim Model Added.; DatasheetVersion: Jul-2009; PackageVersion: revM, May-2009; PackageReference: M08A; Publisher: Altium Limited; PackageDescription: SOIC Narrow, 4.9 x 3.9 x 1.45mm, 8 Lead, 1.27mm Pitch; RoHS: Y; PinCount: 8; Code_JEDEC: MS-012-AA; Code_IPC: SOIC127P600-8; ComponentLink1Description: LMP2021 Datasheet; ComponentLink1URL: http://www.national.com/ds/LM/LMP2021.pdf; ComponentLink2Description: LMP2021 Web Page; ComponentLink2URL: http://www.national.com/pf/LM/LMP2021.html; ComponentLink3Description: M08A Package Page; ComponentLink3URL: http://www.national.com/packaging/folders/m08a.html
footprint M08A_N (SOIC, 8-Leads, Body 4.9x3.9mm, Pitch 1.27mm, IPC Medium Density)
footprint M08A_L (SOIC, 8-Leads, Body 4.9x3.9mm, Pitch 1.27mm, IPC High Density)
footprint M08A_M (SOIC, 8-Leads, Body 4.9x3.9mm, Pitch 1.27mm, IPC Low Density)
simulation model LMP2021 (SUBCKT)
pins: 1 NC, 2 IN- (in), 3 IN+ (in), 4 V- (power), 5 NC, 6 OUT (out), 7 V+ (power), 8 NC

## LMP2021MA/NOPB
designator U?
Zero Drift, Low Noise, EMI Hardened Amplifier, 8-pin Narrow SOIC, Pb-Free; PartNumber: LMP2021MA/NOPB; Manufacturer: National Semiconductor; PackageTopMarking: NSZXTT*LMP20*21MA; PowerWise: N; CompType: Amplifiers; Published: 1-Mar-2010; DatasheetVersion: Jul-2009; PackageVersion: revM, May-2009; PackageReference: M08A; Publisher: Altium Limited; PackageDescription: SOIC Narrow, 4.9 x 3.9 x 1.45mm, 8 Lead, 1.27mm Pitch; Supplier 1: Digi-Key; Supplier Part Number 1: LMP2021MA-ND; Supplier 2: Farnell; Supplier Part Number 2: 1684977; RoHS: Y; PinCount: 8; Code_JEDEC: MS-012-AA; Code_IPC: SOIC127P600-8; ComponentLink1Description: LMP2021 Datasheet; ComponentLink1URL: http://www.national.com/ds/LM/LMP2021.pdf; ComponentLink2Description: LMP2021 Web Page; ComponentLink2URL: http://www.national.com/pf/LM/LMP2021.html; ComponentLink3Description: M08A Package Page; ComponentLink3URL: http://www.national.com/packaging/folders/m08a.html
footprint M08A_N (SOIC, 8-Leads, Body 4.9x3.9mm, Pitch 1.27mm, IPC Medium Density)
footprint M08A_L (SOIC, 8-Leads, Body 4.9x3.9mm, Pitch 1.27mm, IPC High Density)
footprint M08A_M (SOIC, 8-Leads, Body 4.9x3.9mm, Pitch 1.27mm, IPC Low Density)
simulation model LMP2021 (SUBCKT)
pins: 1 NC, 2 IN- (in), 3 IN+ (in), 4 V- (power), 5 NC, 6 OUT (out), 7 V+ (power), 8 NC

## LMP2021MAX/NOPB
designator U?
Zero Drift, Low Noise, EMI Hardened Amplifier, 8-pin Narrow SOIC, Pb-Free; PartNumber: LMP2021MAX/NOPB; Manufacturer: National Semiconductor; PackageTopMarking: NSZXTT*LMP20*21MA; PowerWise: N; CompType: Amplifiers; Published: 1-Mar-2010; DatasheetVersion: Jul-2009; PackageVersion: revM, May-2009; PackageReference: M08A; Publisher: Altium Limited; PackageDescription: SOIC Narrow, 4.9 x 3.9 x 1.45mm, 8 Lead, 1.27mm Pitch; Supplier 1: Digi-Key; Supplier Part Number 1: LMP2021MAX-ND; RoHS: Y; PinCount: 8; Code_JEDEC: MS-012-AA; Code_IPC: SOIC127P600-8; ComponentLink1Description: LMP2021 Datasheet; ComponentLink1URL: http://www.national.com/ds/LM/LMP2021.pdf; ComponentLink2Description: LMP2021 Web Page; ComponentLink2URL: http://www.national.com/pf/LM/LMP2021.html; ComponentLink3Description: M08A Package Page; ComponentLink3URL: http://www.national.com/packaging/folders/m08a.html
footprint M08A_N (SOIC, 8-Leads, Body 4.9x3.9mm, Pitch 1.27mm, IPC Medium Density)
footprint M08A_L (SOIC, 8-Leads, Body 4.9x3.9mm, Pitch 1.27mm, IPC High Density)
footprint M08A_M (SOIC, 8-Leads, Body 4.9x3.9mm, Pitch 1.27mm, IPC Low Density)
simulation model LMP2021 (SUBCKT)
pins: 1 NC, 2 IN- (in), 3 IN+ (in), 4 V- (power), 5 NC, 6 OUT (out), 7 V+ (power), 8 NC

## LMP2021MF
designator U?
Zero Drift, Low Noise, EMI Hardened Amplifier, 5-pin SOT-23; PartNumber: LMP2021MF; Manufacturer: National Semiconductor; PackageTopMarking: AF5A*XTT; PowerWise: N; CompType: Amplifiers; Published: 4-Dec-2008; LatestRevisionDate: 13-Jan-2009; LatestRevisionNote: Sim Model Added.; DatasheetVersion: Jul-2009; PackageVersion: revD, Aug-2008; PackageReference: MF05A; Publisher: Altium Limited; PackageDescription: Molded SOT-23, .115 x .063 x .040 in Body, 5 Lead, .0375 in Pitch; RoHS: Y; PinCount: 5; ComponentLink1Description: LMP2021 Datasheet; ComponentLink1URL: http://www.national.com/ds/LM/LMP2021.pdf; ComponentLink2Description: LMP2021 Web Page; ComponentLink2URL: http://www.national.com/pf/LM/LMP2021.html; ComponentLink3Description: MF05A Package Page; ComponentLink3URL: http://www.national.com/packaging/folders/mf05a.html
footprint MF05A_N (SOT23, 5-Leads, Body 2.9x1.6mm, Pitch 0.95mm, Lead Span 2.8mm, IPC Medium Density)
footprint MF05A_L (SOT23, 5-Leads, Body 2.9x1.6mm, Pitch 0.95mm, Lead Span 2.8mm, IPC High Density)
footprint MF05A_M (SOT23, 5-Leads, Body 2.9x1.6mm, Pitch 0.95mm, Lead Span 2.8mm, IPC Low Density)
simulation model LMP2021 (SUBCKT)
pins: 1 OUT (out), 2 V- (power), 3 IN+ (in), 4 IN- (in), 5 V+ (power)

## LMP2021MF/NOPB
designator U?
Zero Drift, Low Noise, EMI Hardened Amplifier, 5-pin SOT-23, Pb-Free; PartNumber: LMP2021MF/NOPB; Manufacturer: National Semiconductor; PackageTopMarking: AF5A*XTT; PowerWise: N; CompType: Amplifiers; Published: 1-Mar-2010; DatasheetVersion: Jul-2009; PackageVersion: revD, Aug-2008; PackageReference: MF05A; Publisher: Altium Limited; PackageDescription: Molded SOT-23, .115 x .063 x .040 in Body, 5 Lead, .0375 in Pitch; Supplier 1: Digi-Key; Supplier Part Number 1: LMP2021MF-ND; RoHS: Y; PinCount: 5; ComponentLink1Description: LMP2021 Datasheet; ComponentLink1URL: http://www.national.com/ds/LM/LMP2021.pdf; ComponentLink2Description: LMP2021 Web Page; ComponentLink2URL: http://www.national.com/pf/LM/LMP2021.html; ComponentLink3Description: MF05A Package Page; ComponentLink3URL: http://www.national.com/packaging/folders/mf05a.html
footprint MF05A_N (SOT23, 5-Leads, Body 2.9x1.6mm, Pitch 0.95mm, Lead Span 2.8mm, IPC Medium Density)
footprint MF05A_L (SOT23, 5-Leads, Body 2.9x1.6mm, Pitch 0.95mm, Lead Span 2.8mm, IPC High Density)
footprint MF05A_M (SOT23, 5-Leads, Body 2.9x1.6mm, Pitch 0.95mm, Lead Span 2.8mm, IPC Low Density)
simulation model LMP2021 (SUBCKT)
pins: 1 OUT (out), 2 V- (power), 3 IN+ (in), 4 IN- (in), 5 V+ (power)

## LMP2021MFE/NOPB
designator U?
Zero Drift, Low Noise, EMI Hardened Amplifier, 5-pin SOT-23, Pb-Free; PartNumber: LMP2021MFE/NOPB; Manufacturer: National Semiconductor; PackageTopMarking: AF5A*XTT; PowerWise: N; CompType: Amplifiers; Published: 1-Mar-2010; DatasheetVersion: Jul-2009; PackageVersion: revD, Aug-2008; PackageReference: MF05A; Publisher: Altium Limited; PackageDescription: Molded SOT-23, .115 x .063 x .040 in Body, 5 Lead, .0375 in Pitch; Supplier 1: Digi-Key; Supplier Part Number 1: LMP2021MFETR-ND; Supplier 2: Digi-Key; Supplier Part Number 2: LMP2021MFECT-ND; Supplier 3: Digi-Key; Supplier Part Number 3: LMP2021MFEDKR-ND; Supplier 4: Farnell; Supplier Part Number 4: 1684979; RoHS: Y; PinCount: 5; ComponentLink1Description: LMP2021 Datasheet; ComponentLink1URL: http://www.national.com/ds/LM/LMP2021.pdf; ComponentLink2Description: LMP2021 Web Page; ComponentLink2URL: http://www.national.com/pf/LM/LMP2021.html; ComponentLink3Description: MF05A Package Page; ComponentLink3URL: http://www.national.com/packaging/folders/mf05a.html
footprint MF05A_N (SOT23, 5-Leads, Body 2.9x1.6mm, Pitch 0.95mm, Lead Span 2.8mm, IPC Medium Density)
footprint MF05A_L (SOT23, 5-Leads, Body 2.9x1.6mm, Pitch 0.95mm, Lead Span 2.8mm, IPC High Density)
footprint MF05A_M (SOT23, 5-Leads, Body 2.9x1.6mm, Pitch 0.95mm, Lead Span 2.8mm, IPC Low Density)
simulation model LMP2021 (SUBCKT)
pins: 1 OUT (out), 2 V- (power), 3 IN+ (in), 4 IN- (in), 5 V+ (power)

## LMP2021MFX/NOPB
designator U?
Zero Drift, Low Noise, EMI Hardened Amplifier, 5-pin SOT-23, Pb-Free; PartNumber: LMP2021MFX/NOPB; Manufacturer: National Semiconductor; PackageTopMarking: AF5A*XTT; PowerWise: N; CompType: Amplifiers; Published: 1-Mar-2010; DatasheetVersion: Jul-2009; PackageVersion: revD, Aug-2008; PackageReference: MF05A; Publisher: Altium Limited; PackageDescription: Molded SOT-23, .115 x .063 x .040 in Body, 5 Lead, .0375 in Pitch; Supplier 1: Digi-Key; Supplier Part Number 1: LMP2021MFX-ND; RoHS: Y; PinCount: 5; ComponentLink1Description: LMP2021 Datasheet; ComponentLink1URL: http://www.national.com/ds/LM/LMP2021.pdf; ComponentLink2Description: LMP2021 Web Page; ComponentLink2URL: http://www.national.com/pf/LM/LMP2021.html; ComponentLink3Description: MF05A Package Page; ComponentLink3URL: http://www.national.com/packaging/folders/mf05a.html
footprint MF05A_N (SOT23, 5-Leads, Body 2.9x1.6mm, Pitch 0.95mm, Lead Span 2.8mm, IPC Medium Density)
footprint MF05A_L (SOT23, 5-Leads, Body 2.9x1.6mm, Pitch 0.95mm, Lead Span 2.8mm, IPC High Density)
footprint MF05A_M (SOT23, 5-Leads, Body 2.9x1.6mm, Pitch 0.95mm, Lead Span 2.8mm, IPC Low Density)
simulation model LMP2021 (SUBCKT)
pins: 1 OUT (out), 2 V- (power), 3 IN+ (in), 4 IN- (in), 5 V+ (power)

## LMP2022MA
designator U?
Dual, Zero Drift, Low Noise, EMI Hardened Amplifier, 8-pin Narrow SOIC; PartNumber: LMP2022MA; Manufacturer: National Semiconductor; PackageTopMarking: NSZXTT*LMP20*22MA; PowerWise: N; CompType: Amplifiers; Published: 4-Dec-2008; LatestRevisionDate: 13-Jan-2009; LatestRevisionNote: Sim Model Added.; DatasheetVersion: Jul-2009; PackageVersion: revM, May-2009; PackageReference: M08A; Publisher: Altium Limited; PackageDescription: SOIC Narrow, 4.9 x 3.9 x 1.45mm, 8 Lead, 1.27mm Pitch; Supplier 1: Farnell; Supplier Part Number 1: 1689556; RoHS: Y; PinCount: 8; Code_JEDEC: MS-012-AA; Code_IPC: SOIC127P600-8; ComponentLink1Description: LMP2021 Datasheet; ComponentLink1URL: http://www.national.com/ds/LM/LMP2021.pdf; ComponentLink2Description: LMP2021 Web Page; ComponentLink2URL: http://www.national.com/pf/LM/LMP2022.html; ComponentLink3Description: M08A Package Page; ComponentLink3URL: http://www.national.com/packaging/folders/m08a.html
footprint M08A_N (SOIC, 8-Leads, Body 4.9x3.9mm, Pitch 1.27mm, IPC Medium Density)
footprint M08A_L (SOIC, 8-Leads, Body 4.9x3.9mm, Pitch 1.27mm, IPC High Density)
footprint M08A_M (SOIC, 8-Leads, Body 4.9x3.9mm, Pitch 1.27mm, IPC Low Density)
simulation model LMP2021 (SUBCKT)
pins on every part: 4 V- (power), 8 V+ (power)
part A pins: 1 OUTA (out), 2 INA- (in), 3 INA+ (in)
part B pins: 5 INB+ (in), 6 INB- (in), 7 OUTB (out)

## LMP2022MA/NOPB
designator U?
Zero Drift, Low Noise, EMI Hardened Amplifier, 8-pin Narrow SOIC, Pb-Free; PartNumber: LMP2022MA/NOPB; Manufacturer: National Semiconductor; PackageTopMarking: NSZXTT*LMP20*22MA; PowerWise: N; CompType: Amplifiers; Published: 1-Mar-2010; DatasheetVersion: Jul-2009; PackageVersion: revM, May-2009; PackageReference: M08A; Publisher: Altium Limited; PackageDescription: SOIC Narrow, 4.9 x 3.9 x 1.45mm, 8 Lead, 1.27mm Pitch; Supplier 1: Digi-Key; Supplier Part Number 1: LMP2022MA-ND; Supplier 2: Farnell; Supplier Part Number 2: 1684981; RoHS: Y; PinCount: 8; Code_JEDEC: MS-012-AA; Code_IPC: SOIC127P600-8; ComponentLink1Description: LMP2022 Datasheet; ComponentLink1URL: http://www.national.com/ds/LM/LMP2022.pdf; ComponentLink2Description: LMP2022 Web Page; ComponentLink2URL: http://www.national.com/pf/LM/LMP2022.html; ComponentLink3Description: M08A Package Page; ComponentLink3URL: http://www.national.com/packaging/folders/m08a.html
footprint M08A_N (SOIC, 8-Leads, Body 4.9x3.9mm, Pitch 1.27mm, IPC Medium Density)
footprint M08A_L (SOIC, 8-Leads, Body 4.9x3.9mm, Pitch 1.27mm, IPC High Density)
footprint M08A_M (SOIC, 8-Leads, Body 4.9x3.9mm, Pitch 1.27mm, IPC Low Density)
simulation model LMP2022 (SUBCKT)
pins on every part: 4 V- (power), 8 V+ (power)
part A pins: 1 OUTA (out), 2 INA- (in), 3 INA+ (in)
part B pins: 5 INB+ (in), 6 INB- (in), 7 OUTB (out)

## LMP2022MAX/NOPB
designator U?
Zero Drift, Low Noise, EMI Hardened Amplifier, 8-pin Narrow SOIC, Pb-Free; PartNumber: LMP2022MAX/NOPB; Manufacturer: National Semiconductor; PackageTopMarking: NSZXTT*LMP20*22MA; PowerWise: N; CompType: Amplifiers; Published: 1-Mar-2010; DatasheetVersion: Jul-2009; PackageVersion: revM, May-2009; PackageReference: M08A; Publisher: Altium Limited; PackageDescription: SOIC Narrow, 4.9 x 3.9 x 1.45mm, 8 Lead, 1.27mm Pitch; Supplier 1: Digi-Key; Supplier Part Number 1: LMP2022MAX-ND; RoHS: Y; PinCount: 8; Code_JEDEC: MS-012-AA; Code_IPC: SOIC127P600-8; ComponentLink1Description: LMP2022 Datasheet; ComponentLink1URL: http://www.national.com/ds/LM/LMP2022.pdf; ComponentLink2Description: LMP2022 Web Page; ComponentLink2URL: http://www.national.com/pf/LM/LMP2022.html; ComponentLink3Description: M08A Package Page; ComponentLink3URL: http://www.national.com/packaging/folders/m08a.html
footprint M08A_N (SOIC, 8-Leads, Body 4.9x3.9mm, Pitch 1.27mm, IPC Medium Density)
footprint M08A_L (SOIC, 8-Leads, Body 4.9x3.9mm, Pitch 1.27mm, IPC High Density)
footprint M08A_M (SOIC, 8-Leads, Body 4.9x3.9mm, Pitch 1.27mm, IPC Low Density)
simulation model LMP2022 (SUBCKT)
pins on every part: 4 V- (power), 8 V+ (power)
part A pins: 1 OUTA (out), 2 INA- (in), 3 INA+ (in)
part B pins: 5 INB+ (in), 6 INB- (in), 7 OUTB (out)

## LMP2022MM
designator U?
Dual, Zero Drift, Low Noise, EMI Hardened Amplifier, 8-pin Mini SOIC; PartNumber: LMP2022MM; Manufacturer: National Semiconductor; PackageTopMarking: ZXTT*AV5A; PowerWise: N; CompType: Amplifiers; Published: 4-Dec-2008; LatestRevisionDate: 13-Jan-2009; LatestRevisionNote: Sim Model Added.; DatasheetVersion: Jul-2009; PackageVersion: revF, Apr-2008; PackageReference: MUA08A; Publisher: Altium Limited; PackageDescription: MINI SOIC, .118 x .118 x .034in, 8 Lead, .0256in Pitch; RoHS: Y; PinCount: 8; Code_JEDEC: MO-187-AA; ComponentLink1Description: LMP2021 Datasheet; ComponentLink1URL: http://www.national.com/ds/LM/LMP2021.pdf; ComponentLink2Description: LMP2021 Web Page; ComponentLink2URL: http://www.national.com/pf/LM/LMP2022.html; ComponentLink3Description: MUA08A Package Page; ComponentLink3URL: http://www.national.com/packaging/folders/mua08a.html
footprint MUA08A_N (TSOP, 8-Leads, Body 3x3mm, Pitch 0.65mm, IPC Medium Density)
footprint MUA08A_L (TSOP, 8-Leads, Body 3x3mm, Pitch 0.65mm, IPC High Density)
footprint MUA08A_M (TSOP, 8-Leads, Body 3x3mm, Pitch 0.65mm, IPC Low Density)
simulation model LMP2021 (SUBCKT)
pins on every part: 4 V- (power), 8 V+ (power)
part A pins: 1 OUTA (out), 2 INA- (in), 3 INA+ (in)
part B pins: 5 INB+ (in), 6 INB- (in), 7 OUTB (out)